# EAGLE library part CONN_USBC_16P (library GPLIB_CONN)
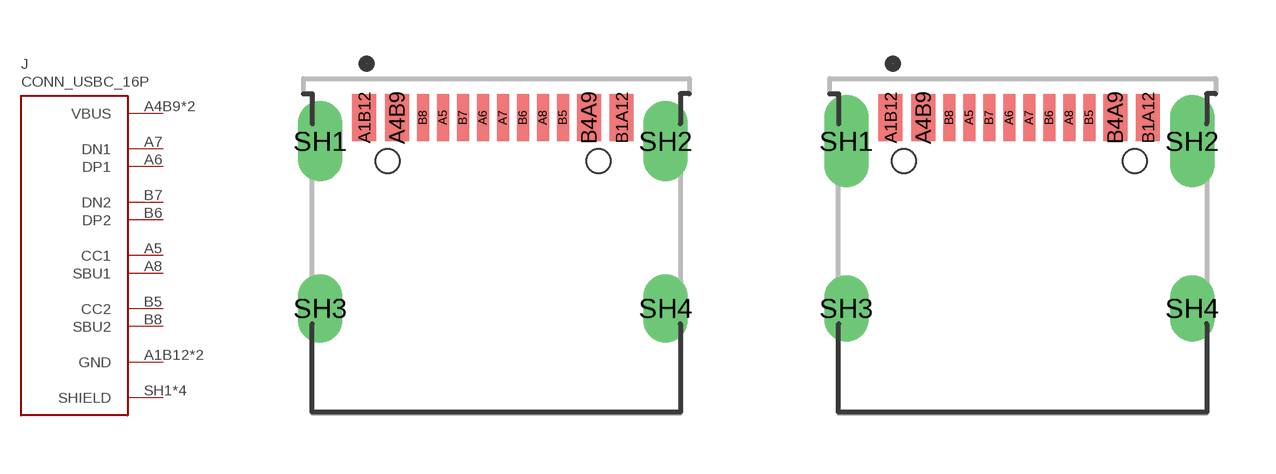
[diagram p66: symbol with the pads of CONN_USBC_16P_GT-USB-7004N; footprints CONN_USBC_16P_GT-USB-7004N, CONN_USBC_16P_HX-TYPE-C]

Designator prefix J

## CONN_USBC_16P_GT-USB-7004N  [CONN_USBC_16P_GT-USB-7004N]
A1B12  GND  pwr
A4B9  VBUS  pwr
A5  CC1
A6  DP1
A7  DN1
A8  SBU1
B1A12  GND  pwr
B4A9  VBUS  pwr
B5  CC2
B6  DP2
B7  DN2
B8  SBU2
SH1  SHIELD  pwr
SH2  SHIELD  pwr
SH3  SHIELD  pwr
SH4  SHIELD  pwr

## CONN_USBC_16P_HX-TYPE-C-16-PIN  [CONN_USBC_16P_HX-TYPE-C]
Pads as for CONN_USBC_16P_GT-USB-7004N

## Footprint CONN_USBC_16P_GT-USB-7004N (pad centres in mm)
smd 0.6 x 1.18: A1B12 -3.22,7.37; A4B9 -2.4,7.37; B1A12 3.22,7.37; B4A9 2.4,7.37
smd 0.3 x 1.18: A5 -1.25,7.37; A6 -0.25,7.37; A7 0.25,7.37; A8 1.25,7.37; B5 1.75,7.37; B6 0.75,7.37; B7 -0.75,7.37; B8 -1.75,7.37
drill 0.6 pad 1 slot 1.5 rotated 90: SH1 -4.32,6.78; SH2 4.32,6.78
drill 0.6 pad 1 slot 1.2 rotated 90: SH3 -4.32,2.6; SH4 4.32,2.6
hole 0.6 at -2.64,6.28
hole 0.6 at 2.64,6.28

## Footprint CONN_USBC_16P_HX-TYPE-C (pad centres in mm)
smd 0.6 x 1.18: A1B12 -3.22,7.37; A4B9 -2.4,7.37; B1A12 3.22,7.37; B4A9 2.4,7.37
smd 0.3 x 1.18: A5 -1.25,7.37; A6 -0.25,7.37; A7 0.25,7.37; A8 1.25,7.37; B5 1.75,7.37; B6 0.75,7.37; B7 -0.75,7.37; B8 -1.75,7.37
drill 0.6 slot 1.8 rotated 90: SH1 -4.325,6.78; SH2 4.325,6.78
drill 0.6 slot 1.15 rotated 90: SH3 -4.325,2.6; SH4 4.325,2.6
hole 0.6 at -2.89,6.28
hole 0.6 at 2.89,6.28